# Altium footprint library PCB - CONNECTOR - OST - OST OSTTE100161.PcbLib: 1 footprints
Each footprint in its own frame and in the unit in brackets; x right, y up, seen from the top. Pads: shape width x height; smd on the part's side, far side on the other; paste and mask are expansions set on the pad; w line width, h text height; cw(c..) or ccw(c..) is an arc to the next point about the centre after c.
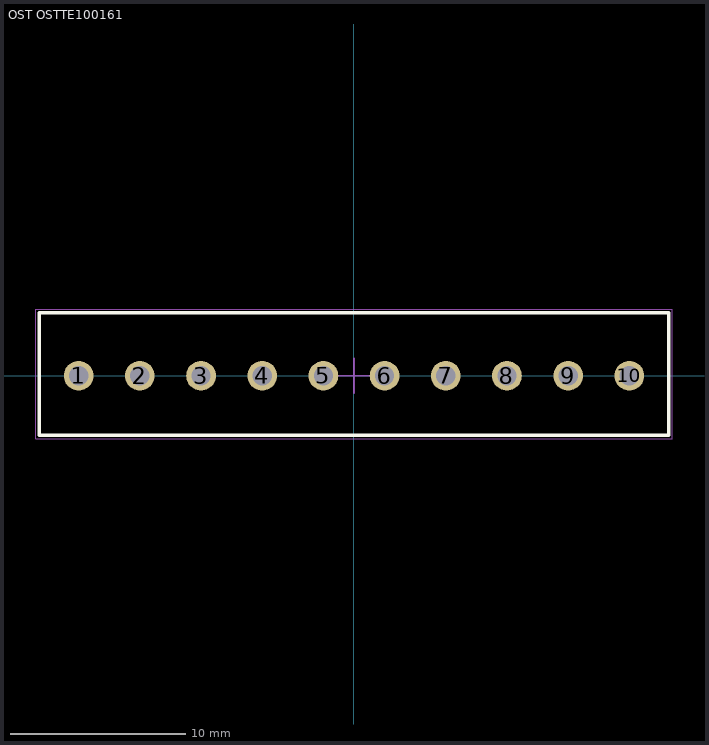
[diagram p0: the footprint, top view; thin cyan lines are the x and y axes]

## OST OSTTE100161 [mm] "Wire to Board Terminal Block Horizontal with Board Through Hole, 10 Position, 3.5mm Pitch, 36x7.0 mm Body"
height 8.4
pads (10):
  round 1.7 hole 1.1: 1(-15.75,0) 2(-12.25,0) 3(-8.75,0) 4(-5.25,0) 5(-1.75,0) 6(1.75,0) 7(5.25,0) 8(8.75,0) 9(12.25,0) 10(15.75,0)
Top Overlay:
  lines w0.2: -18,-3.4 -18,3.6 18,3.6 18,-3.4 -18,-3.4
Mechanical 13:
  lines w0.1: -18,-3.4 -18,3.6 18,3.6 18,-3.4 -18,-3.4
Mechanical 15 (Mech15):
  lines w0.05: -18.2,-3.6 -18.2,3.8 18.2,3.8 18.2,-3.6 -18.2,-3.6
  lines w0.1: -1,0 0,0 ; 0,-1 0,0 ; 0,1 0,0 ; 1,0 0,0
3D body "OST - OSTTE100161 v3.step": height 8.7, standoff -3.32, extent -18,-3.4 18,3.6